# EAGLE library part PS2 (library -redpic-connector)
Conector Mini-DIN PS/2 para PCB Hembra
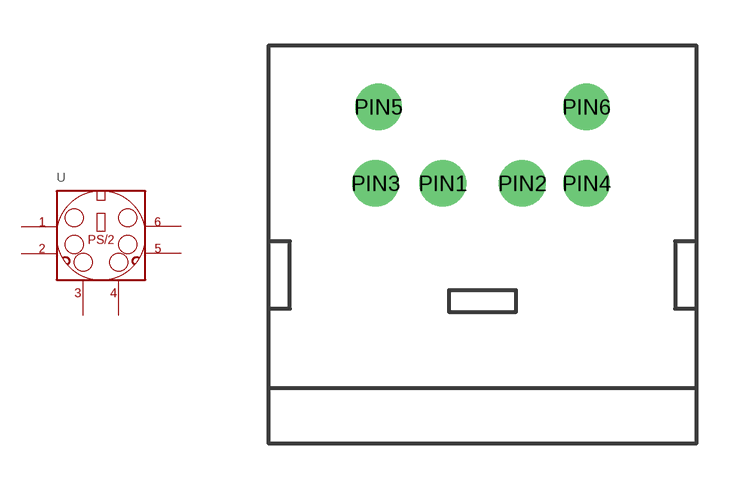
[diagram p0: symbol with the pads of PS2; footprint PS2]

Designator prefix -

## PS2  [PS2]
PIN1  P1
PIN2  P2
PIN3  P3
PIN4  P4
PIN5  P5
PIN6  P6

## Footprint PS2 (pad centres in mm)
drill 1.016 round: PIN1 5.7,8.5; PIN2 8.3,8.5; PIN3 3.5,8.5; PIN4 10.4,8.5; PIN5 3.6,11; PIN6 10.4,11